# Altium schematic symbol library TriMod Adapter 2.SCHLIB: 20 symbols
Pins are listed as number, name and electrical type; pins without a type are passive.

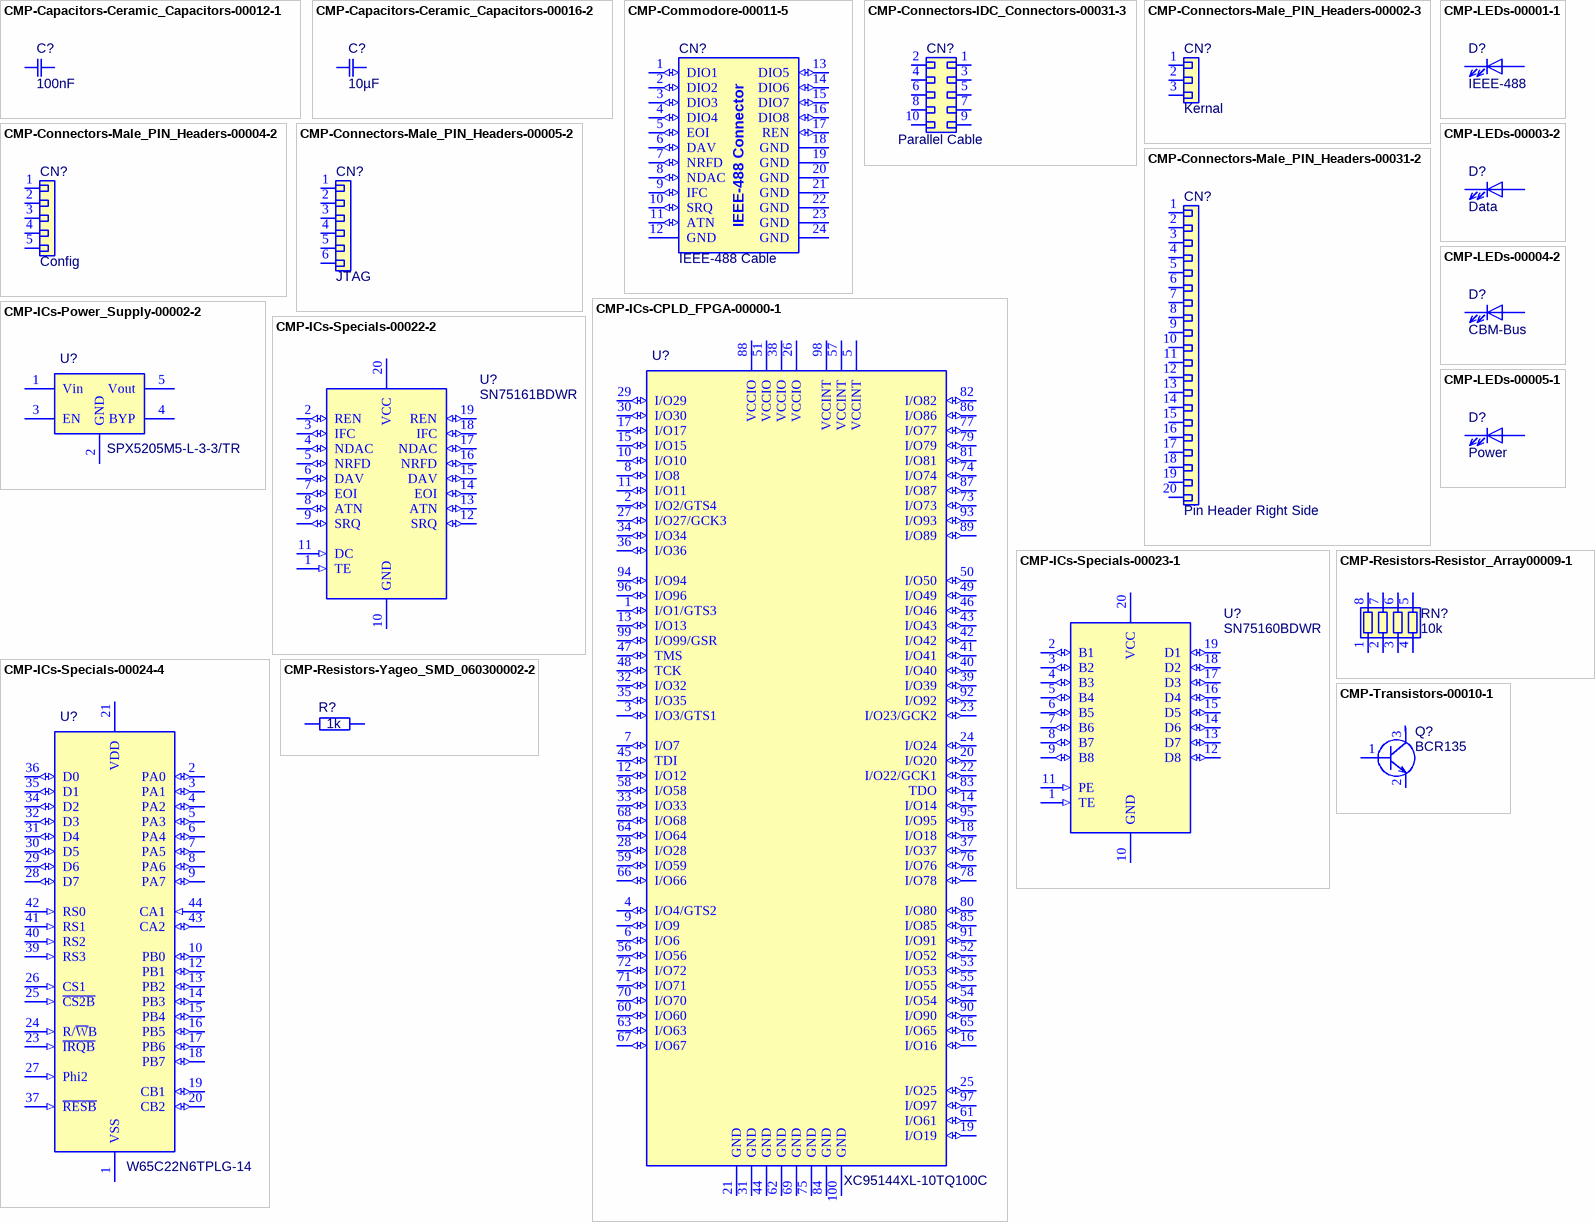
[diagram p0: symbols CMP-Capacitors-Ceramic_Capacitors-00012-1 to CMP-Transistors-00010-1]

## CMP-Capacitors-Ceramic_Capacitors-00012-1
designator C?, comment 100nF
KEMET         C0603C104J3RACTU             SMD Multilayer Ceramic Capacitor, 0603 [1608 Metric], 0.1 F, 25 V,  5%, X7R, C Series; Voltage Rating (DC): 25V; Height: 0.8mm; Dielectric: X7R; Case Code (Metric): 1608; Width: 0.031inch; Depth: 0.8mm; Min Operating Temperature: -55°C; Number of Pins: 2; Mount: Surface Mount,PCB; REACH SVHC: No SVHC; Packaging: Tape and Reel; Case Code (Imperial): 0603; Contact Plating: Tin,Matte; Length: 1.6mm; Case/Package: 0603; Lead Pitch: 0.7mm; Package Quantity: 4000; Tolerance: 5%; Radiation Hardening: No; Dielectric Material: Ceramic; Voltage: 25V; Termination: SMD/SMT; Capacitance: 100nF; Voltage Rating: 25V; Thickness: 0.034inch; Max Operating Temperature: 125°C; Manufacturer: KEMET; Manufacturer Part Number: C0603C104J3RACTU; Component Type: Ceramic Capacitors
footprint CAP 100nF SMD 0603 C0603C104J3RACTU (Chip Capacitor, 2-Leads, Body 1,60x0,80mm, IPC Medium Density)
pins: 1, 2

## CMP-Capacitors-Ceramic_Capacitors-00016-2
designator C?, comment 10µF
KEMET - C0805C106K8RACTU - CAP, 10µF, 10V, 10%, X7R, 0805; Dissipation Factor: 7.5%; Dielectric Material: Ceramic; Capacitance: 10uF; Max Operating Temperature: 125°C; Packaging: Tape and Reel; Case Code (Imperial): 0805; Depth: 1.25mm; Voltage: 10V; Voltage Rating (DC): 10V; Mount: Surface Mount,PCB; Min Operating Temperature: -55°C; Case Code (Metric): 2012; Case/Package: 0805; Thickness: 0.055inch; Termination: SMD/SMT; Voltage Rating: 10V; Height: 1.25mm; Dielectric: X7R; Width: 1.2mm; Package Quantity: 1; Length: 2mm; REACH SVHC: No SVHC; Tolerance: 10%; Manufacturer: KEMET; Manufacturer Part Number: C0805C106K8RACTU; Component Type: Ceramic Capacitors
footprint Kemet C0805CxxxK8RACTU Series H=1.4mm
pins: 1, 2

## CMP-Commodore-00011-5
designator CN?, comment IEEE-488 Cable
IEEE-488 IDC Connector Right Angle or Straight; Component Type: Commodore
footprint IEEE-488 IDC Header 2x12 P2.54mm Straight
footprint IEEE-488 IDC Header 2x12 P2.54mm Right Angle
footprint IEEE-488 Micro Match Connector
pins: 1 DIO1 (io), 2 DIO2 (io), 3 DIO3 (io), 4 DIO4 (io), 5 EOI (io), 6 DAV (io), 7 NRFD (io), 8 NDAC (io), 9 IFC (io), 10 SRQ (io), 11 ATN (io), 12 GND, 13 DIO5 (io), 14 DIO6 (io), 15 DIO7 (io), 16 DIO8 (io), 17 REN (io), 18 GND, 19 GND, 20 GND, 21 GND, 22 GND, 23 GND, 24 GND
text: IEEE-488 Connector

## CMP-Connectors-IDC_Connectors-00031-3
designator CN?, comment Parallel Cable
Grid pitch: 1.27 mm BL2/15-0400GTT-010 RU MPE Garry Conten; Manufacturer: MPE-Garry; Manufacturer Part Number: 369-1-010-0-NTX-KT0; Pitch: 1.27mm; Height: 3.95mm; Contact Material: Bronze,Tin; Length: 14.62mm; Insulation Material: Thermoplastic; Width: 5mm; Component Type: IDC Connectors
footprint MPE 369-1-010 Buchsenleisten MicroMatch 1,27 mm,2X05,gerade
pins: 1, 2, 3, 4, 5, 6, 7, 8, 9, 10

## CMP-Connectors-Male_PIN_Headers-00002-3
designator CN?, comment Kernal
CONN HEADER .100" SNGL STR 3POS; Manufacturer: Sullins; Manufacturer Part Number: PRPC003SFAN-RC; Pitch: 0.1inch; Number of Positions: 3; Connector Type: Male Pin; Mount: Through Hole; Color: Black; Contact Mating Length: 0.318inch; Package Quantity: 1; Termination: Solder; Number of Rows: 1; Contact Plating: Gold; Packaging: Bulk; Component Type: Male PIN Headers
footprint Pin Header 01x03 2.54mm Horizontal Male
pins: 1, 2, 3

## CMP-Connectors-Male_PIN_Headers-00004-2
designator CN?, comment Config
CONN HEADER VERT 5POS 2.54MM; Manufacturer: Sullins; Manufacturer Part Number: PRPC005SFAN-RC; Number of Positions: 5; Pitch: 0.1inch; Connector Type: Male Pin; Mount: Through Hole; Number of Rows: 1; Contact Mating Length: 0.318inch; Contact Plating: Gold; Packaging: Bulk; Package Quantity: 1; Color: Black; Termination: Solder; Component Type: Male PIN Headers
footprint Pin Header 01x05 2.54mm Horizontal Male
pins: 1, 2, 3, 4, 5

## CMP-Connectors-Male_PIN_Headers-00005-2
designator CN?, comment JTAG
CONN HEADER VERT 6POS 2.54MM; Manufacturer: Sullins; Manufacturer Part Number: PRPC006SFAN-RC; Connector Type: Male Pin; Pitch: 0.1inch; Number of Positions: 6; Packaging: Bulk; Termination: Solder; Package Quantity: 1; Contact Mating Length: 0.318inch; Contact Plating: Gold; Color: Black; Mount: Through Hole; Number of Rows: 1; Component Type: Male PIN Headers
footprint Pin Header 01x06 2.54mm Horizontal Male
pins: 1, 2, 3, 4, 5, 6

## CMP-Connectors-Male_PIN_Headers-00031-2
designator CN?, comment Pin Header Right Side
Conn Header Vert 20POS 2MM; Manufacturer: Preci-Dip; Manufacturer Part Number: 830-10-020-10-001101; Connector Type: Male Pin; Number of Positions: 20; Pitch: 0.079inch; Contact Mating Length: 0.141inch; Package Quantity: 250; Mount: Through Hole; Color: Black; Packaging: Bulk; Contact Plating: Gold; Number of Rows: 1; Termination: Solder; Component Type: Male PIN Headers
footprint Pin Header 01x20 2.54mm precision Horizontal Male (Precision)
pins: 1, 2, 3, 4, 5, 6, 7, 8, 9, 10, 11, 12, 13, 14, 15, 16, 17, 18, 19, 20

## CMP-ICs-CPLD_FPGA-00000-1
designator U?, comment XC95144XL-10TQ100C
IC CPLD 144MC 7.5NS 100TQFP; Manufacturer: Xilinx; Manufacturer Part Number: XC95144XL-7TQ100C; Speed Grade: 7; Operating Supply Voltage: 3.3V; Max Supply Voltage: 3.6V; Number of Gates: 3200; Min Supply Voltage: 3V; Number of I/Os: 81; Number of Macrocells: 144; Number of Logic Blocks (LABs): 8; Max Frequency: 125MHz; Memory Type: FLASH; Turn-On Delay Time: 7.5ns; Mount: Surface Mount; Number of Pins: 100; Propagation Delay: 7.5ns; Package Quantity: 90; Case/Package: LQFP; Contact Plating: Tin,Lead; Packaging: Tray; Lead Free: Contains Lead; Min Operating Temperature: 0°C; Number of Logic Elements/Cells: 8; Max Operating Temperature: 70°C; Component Type: CPLD-FPGA
footprint TQFP-100 P0.5mm XC95144XL-7TQ100C (TSQFP, 100-Leads, Body 14,00x14,00mm, Pitch 0,50mm, IPC Medium Density)
pins: 1 I/O1/GTS3 (io), 2 I/O2/GTS4 (io), 3 I/O3/GTS1 (io), 4 I/O4/GTS2 (io), 5 VCCINT (power), 6 I/O6 (io), 7 I/O7 (io), 8 I/O8 (io), 9 I/O9 (io), 10 I/O10 (io), 11 I/O11 (io), 12 I/O12 (io), 13 I/O13 (io), 14 I/O14 (io), 15 I/O15 (io), 16 I/O16 (io), 17 I/O17 (io), 18 I/O18 (io), 19 I/O19 (io), 20 I/O20 (io), 21 GND, 22 I/O22/GCK1 (io), 23 I/O23/GCK2 (io), 24 I/O24 (io), 25 I/O25 (io), 26 VCCIO (power), 27 I/O27/GCK3 (io), 28 I/O28 (io), 29 I/O29 (io), 30 I/O30 (io), 31 GND, 32 I/O32 (io), 33 I/O33 (io), 34 I/O34 (io), 35 I/O35 (io), 36 I/O36 (io), 37 I/O37 (io), 38 VCCIO (power), 39 I/O39 (io), 40 I/O40 (io), 41 I/O41 (io), 42 I/O42 (io), 43 I/O43 (io), 44 GND, 45 TDI (io), 46 I/O46 (io), 47 TMS (io), 48 TCK (io), 49 I/O49 (io), 50 I/O50 (io), 51 VCCIO (power), 52 I/O52 (io), 53 I/O53 (io), 54 I/O54 (io), 55 I/O55 (io), 56 I/O56 (io), 57 VCCINT (power), 58 I/O58 (io), 59 I/O59 (io), 60 I/O60 (io), 61 I/O61 (io), 62 GND, 63 I/O63 (io), 64 I/O64 (io), 65 I/O65 (io), 66 I/O66 (io), 67 I/O67 (io), 68 I/O68 (io), 69 GND, 70 I/O70 (io), 71 I/O71 (io), 72 I/O72 (io), 73 I/O73 (io), 74 I/O74 (io), 75 GND, 76 I/O76 (io), 77 I/O77 (io), 78 I/O78 (io), 79 I/O79 (io), 80 I/O80 (io), 81 I/O81 (io), 82 I/O82 (io), 83 TDO (io), 84 GND, 85 I/O85 (io), 86 I/O86 (io), 87 I/O87 (io), 88 VCCIO (power), 89 I/O89 (io), 90 I/O90 (io), 91 I/O91 (io), 92 I/O92 (io), 93 I/O93 (io), 94 I/O94 (io), 95 I/O95 (io), 96 I/O96 (io), 97 I/O97 (io), 98 VCCINT (power), 99 I/O99/GSR (io), 100 GND

## CMP-ICs-Power_Supply-00002-2
designator U?, comment SPX5205M5-L-3-3/TR
LDO Regulator Pos 3.3V 0.15A 5-Pin SOT-23 T/R; Manufacturer: Exar; Min Input Voltage: 2.5V; Number of Outputs: 1; Dropout Voltage: 210mV; Accuracy: 1%; Polarity: Positive; Max Input Voltage: 16V; Output Type: Fixed; Output Current: 150mA; Quiescent Current: 1uA; Packaging: Tape and Reel; Lead Free: Lead Free; Case/Package: SOT-23; Height: 1.15mm; Number of Regulators: 1; Max Operating Temperature: 125°C; Min Operating Temperature: -40°C; Output Voltage: 3.3V; Width: 1.6mm; Radiation Hardening: No; Mount: Surface Mount; Length: 2.9mm; Max Output Current: 150mA; Min Output Voltage: 3.3V; Number of Pins: 5; Manufacturer Part Number: SPX5205M5-L-3-3/TR; Component Type: Power Supplies
footprint SOT-23-5
pins: 1 Vin (power), 2 GND (power), 3 EN, 4 BYP, 5 Vout (power)

## CMP-ICs-Specials-00022-2
designator U?, comment SN75161BDWR
TEXAS INSTRUMENTS         SN75161BDWR; Number of Transceivers: 1; Number of Transmitters: 8; Propagation Delay: 22ns; Logic Function: Transceiver; Operating Supply Voltage: 5V; Low Level Output Current: 48mA; Min Supply Voltage: 4.75V; Max Supply Voltage: 5.25V; High Level Output Current: -5.2mA; Nominal Supply Current: 110mA; Package Quantity: 1; Packaging: Tape and Reel; REACH SVHC: No SVHC; Number of Drivers: 8; Number of Channels: 8; Lead Free: Lead Free; Max Operating Temperature: 70°C; Mount: Surface Mount; Number of Pins: 20; Case/Package: SOIC; Weight: 0.018953oz; Output Current: 48mA; Number of Receivers: 8; Operating Supply Current: 110mA; Min Operating Temperature: 0°C; Radiation Hardening: No; Manufacturer: Texas Instruments; Manufacturer Part Number: SN75161BDWR; Component Type: Specials
footprint SN75161BDWR SOIC-20 W7.5mm P1,27mm (SOIC, 20-Leads, Body 12,80x7,50mm, Pitch 1,27mm, IPC Medium Density)
pins: 1 TE (in), 2 REN (io), 3 IFC (io), 4 NDAC (io), 5 NRFD (io), 6 DAV (io), 7 EOI (io), 8 ATN (io), 9 SRQ (io), 10 GND (power), 11 DC (in), 12 SRQ (io), 13 ATN (io), 14 EOI (io), 15 DAV (io), 16 NRFD (io), 17 NDAC (io), 18 IFC (io), 19 REN (io), 20 VCC (power)

## CMP-ICs-Specials-00023-1
designator U?, comment SN75160BDWR
TEXAS INSTRUMENTS         SN75160BDWR.            GENERAL-PURPOSE INTERFACE BUS  ((NW)); Propagation Delay: 22ns; Number of Drivers: 8; Max Supply Current: 110mA; Operating Supply Voltage: 5V; High Level Output Current: -5.2mA; ESD Protection: No; Max Supply Voltage: 5.25V; Output Current: 48mA; Min Supply Voltage: 4.75V; Number of Transceivers: 1; Logic Function: Transceiver; Min Operating Temperature: 0°C; Radiation Hardening: No; Lead Free: Lead Free; Package Quantity: 1; Case/Package: SOIC; Number of Transmitters: 8; Contact Plating: Gold; Weight: 0.018953oz; Number of Channels: 8; Max Operating Temperature: 70°C; REACH SVHC: No SVHC; Number of Receivers: 8; Packaging: Tape and Reel; Low Level Output Current: 48mA; Number of Pins: 20; Nominal Supply Current: 110mA; Mount: Surface Mount; Manufacturer: Texas Instruments; Manufacturer Part Number: SN75160BDWR; Component Type: Specials
footprint SN75160BDWR SOIC-20 W7.5mm P1,27mm (SOIC, 20-Leads, Body 12,80x7,50mm, Pitch 1,27mm, IPC Medium Density)
pins: 1 TE (in), 2 B1 (io), 3 B2 (io), 4 B3 (io), 5 B4 (io), 6 B5 (io), 7 B6 (io), 8 B7 (io), 9 B8 (io), 10 GND (power), 11 PE (in), 12 D8 (io), 13 D7 (io), 14 D6 (io), 15 D5 (io), 16 D4 (io), 17 D3 (io), 18 D2 (io), 19 D1 (io), 20 VCC (power)

## CMP-ICs-Specials-00024-4
designator U?, comment W65C22N6TPLG-14
I/O Controller Interface IC Versatile Interface Adapter; Manufacturer: Western Design Center; Data Bus Width: 8b; Operating Supply Voltage: 5V; Interface: Serial; Operating Supply Current: 500uA; Max Operating Temperature: 85°C; Packaging: Rail/Tube; Weight: 0.084185oz; Case/Package: PLCC; Min Operating Temperature: -40°C; Manufacturer Part Number: W65C22N6TPLG-14; Component Type: Specials
footprint W65C22N6TPLG-14 with PLCC Socket
footprint W65C22N6TPLG-14 with SMD PLCC-44 Socket
pins: 1 VSS (power), 2 PA0 (io), 3 PA1 (io), 4 PA2 (io), 5 PA3 (io), 6 PA4 (io), 7 PA5 (io), 8 PA6 (io), 9 PA7 (io), 10 PB0 (io), 11 NC hidden, 12 PB1 (io), 13 PB2 (io), 14 PB3 (io), 15 PB4 (io), 16 PB5 (io), 17 PB6 (io), 18 PB7 (io), 19 CB1 (io), 20 CB2 (io), 21 VDD (power), 22 NC hidden, 23 ~{IRQB} (in), 24 R/~{W}B (in), 25 ~{CS2B} (in), 26 CS1 (in), 27 Phi2 (in), 28 D7 (io), 29 D6 (io), 30 D5 (io), 31 D4 (io), 32 D3 (io), 33 NC hidden, 34 D2 (io), 35 D1 (io), 36 D0 (io), 37 ~{RESB} (in), 38 NC hidden, 39 RS3 (in), 40 RS2 (in), 41 RS1 (in), 42 RS0 (in), 43 CA2 (io), 44 CA1 (in)

## CMP-LEDs-00001-1
designator D?, comment IEEE-488
LED BLUE DIFFUSED 0603 SMD; Manufacturer: Wurth Electronics; Manufacturer Part Number: 150060BS55040; Lens Style: Flat; Lens Size: 0.8mm; Viewing Angle: 140°; Test Current: 20mA; Dominant Wavelength: 470nm; Forward Voltage: 3.2V; Luminous Intensity: 80mcd; Case/Package: 0603; Length: 1.6mm; Lens Transparency: Diffused; Height: 0.5mm; Color: Blue; Mount: Surface Mount; Width: 0.8mm; Packaging: Tape and Reel; Component Type: LEDs
footprint LED Blue SMD 0603
pins: 1, 2

## CMP-LEDs-00003-2
designator D?, comment Data
LED YELLOW DIFFUSED 0603 SMD; Manufacturer: Wurth Electronics; Manufacturer Part Number: 150060YS55040; Test Current: 20mA; Forward Voltage: 2V; Luminous Intensity: 100mcd; Lens Style: Flat; Dominant Wavelength: 589nm; Viewing Angle: 140°; Lens Size: 0.8mm; Length: 1.6mm; Mount: Surface Mount; Packaging: Cut Tape; Lens Transparency: Diffused; Case/Package: 0603; Color: Yellow; Case Code (Metric): 1608; Case Code (Imperial): 0603; Height: 0.5mm; Width: 0.8mm; Component Type: LEDs
footprint LED Yellow SMD 0603
pins: 1, 2

## CMP-LEDs-00004-2
designator D?, comment CBM-Bus
LED BLUE DIFFUSED 0603 SMD; Manufacturer: Wurth Electronics; Manufacturer Part Number: 150060BS55040; Dominant Wavelength: 470nm; Test Current: 20mA; Lens Style: Flat; Viewing Angle: 140°; Forward Voltage: 3.2V; Lens Size: 0.8mm; Luminous Intensity: 80mcd; Color: Blue; Case/Package: 0603; Mount: Surface Mount; Width: 0.8mm; Lens Transparency: Diffused; Length: 1.6mm; Height: 0.5mm; Packaging: Tape and Reel; Component Type: LEDs
footprint LED Green SMD 0603
pins: 1, 2

## CMP-LEDs-00005-1
designator D?, comment Power
LED RED DIFFUSED 0603 SMD; Manufacturer: Wurth Electronics; Manufacturer Part Number: 150060SS55040; Viewing Angle: 140°; Dominant Wavelength: 630nm; Luminous Intensity: 70mcd; Forward Voltage: 2V; Test Current: 20mA; Lens Style: Flat; Lens Size: 0.8mm; Lens Transparency: Diffused; Packaging: Tape and Reel; Case/Package: 0603; Case Code (Imperial): 0603; Width: 0.8mm; Length: 1.6mm; Height: 0.5mm; Case Code (Metric): 1608; Color: Red; Mount: Surface Mount; Component Type: LEDs
footprint LED Red SMD 0603
pins: 1, 2

## CMP-Resistors-Resistor_Array00009-1
designator RN?, comment 10k
RES ARRAY 4 RES 10K OHM 0804; Manufacturer: Yageo; Manufacturer Part Number: TC124-FR-0710KL; Resistance: 10kR; Tolerance: 1%; Number of Circuits: 4; Power Per Element: 62.5mW; Temperature Coefficient: 200ppm/°C; Circuit Type: Isolated; Max Operating Temperature: 125°C; Length: 0.079inch; Min Operating Temperature: -55°C; Case/Package: 0804; Packaging: Tape and Reel; Height: 0.02inch; Number of Pins: 8; Mount: Surface Mount; Number of Resistors: 4; Width: 0.039inch; Component Type: Resistor Arrays
footprint RES ARRAY 4 RES 10K OHM 0804 (Chip Array, Concave, 8-Leads, Pitch 0,50mm,  Body 2,00x1,00mm,  IPC Medium Density)
pins: 1, 2, 3, 4, 5, 6, 7, 8

## CMP-Resistors-Yageo_SMD_060300002-2
designator R?, comment 1k
RES SMD 1K OHM 1% 1/10W 0603; Manufacturer: Yageo; Manufacturer Part Number: RC0603FR-071KL; Temperature Coefficient: 100ppm/°C; Voltage Rating: 50V; Power Rating: 100mW; Resistance: 1kR; Case Code (Imperial): 0603; Length: 1.6mm; Termination: SMD/SMT; Radiation Hardening: No; Depth: 0.8mm; Tolerance: 1%; Height: 0.45mm; Packaging: Tape and Reel; Min Operating Temperature: -55°C; Lead Free: Lead Free; Max Operating Temperature: 155°C; REACH SVHC: No SVHC; Case Code (Metric): 1608; Resistor Type: Thick Film; Contact Plating: Tin,Matte; Case/Package: 0603; Military Standard: Not; Component Type: Yageo SMD 0603
footprint 1k Ohm R 0603 SMD (Chip Resistor 2-Leads, Body 1,60x0,80mm, IPC Medium Density)
pins: 1, 2

## CMP-Transistors-00010-1
designator Q?, comment BCR135
BCR135 Series NPN 50 V 100 mA SMT Silicon Digital Transistor - SOT-23-3; Manufacturer: Infineon; Max Collector Current: 100mA; Collector Emitter Saturation Voltage: 300mV; Element Configuration: Single; hFE Min: 70; Power Dissipation: 200mW; Collector Emitter Voltage (VCEO): 50V; Polarity: NPN; Length: 2.9mm; Min Operating Temperature: -65°C; Number of Pins: 3; Width: 1.3mm; Max Operating Temperature: 150°C; Case/Package: SOT; Packaging: Tape and Reel; Height: 1mm; Manufacturer Part Number: BCR135; Component Type: Transistors
footprint BCR135 SOT23
pins: 1, 2, 3